# EAGLE library part MAX3140 (library components)
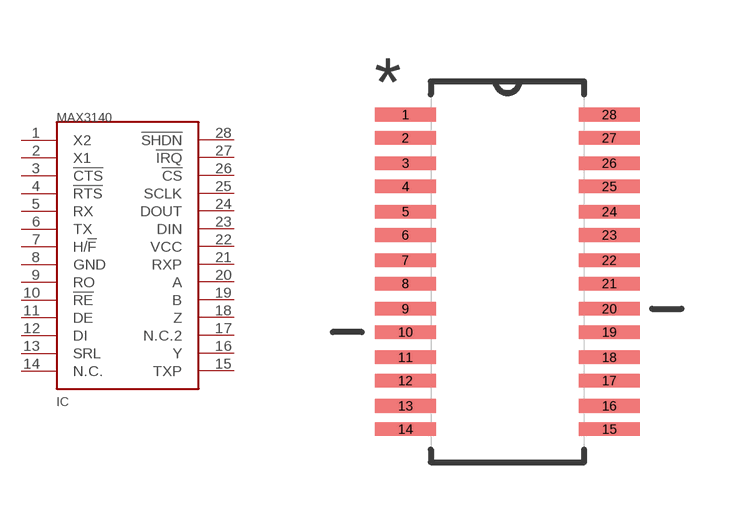
[diagram p6: symbol with the pads of 28QSOP; footprint 28QSOP]

Designator prefix IC

## MAX314028SQSOP  [28QSOP]
1  X2
2  X1
3  !CTS
4  !RTS
5  RX
6  TX
7  H/!F
8  GND
9  RO
10  !RE
11  DE
12  DI
13  SRL
14  N.C.
15  TXP
16  Y
17  N.C.2
18  Z
19  B
20  A
21  RXP
22  VCC
23  DIN
24  DOUT
25  SCLK
26  !CS
27  !IRQ
28  !SHDN

## Footprint 28QSOP (pad centres in mm)
smd 1.6 x 0.356: 1 -2.667,4.115; 2 -2.667,3.505; 3 -2.667,2.845; 4 -2.667,2.235; 5 -2.667,1.575; 6 -2.667,0.965; 7 -2.667,0.305; 8 -2.667,-0.305; 9 -2.667,-0.965; 10 -2.667,-1.575; 11 -2.667,-2.235; 12 -2.667,-2.845; 13 -2.667,-3.505; 14 -2.667,-4.115; 15 2.667,-4.115; 16 2.667,-3.505; 17 2.667,-2.845; 18 2.667,-2.235; 19 2.667,-1.575; 20 2.667,-0.965; 21 2.667,-0.305; 22 2.667,0.305; 23 2.667,0.965; 24 2.667,1.575; 25 2.667,2.235; 26 2.667,2.845; 27 2.667,3.505; 28 2.667,4.115